# Altium footprint library KEA128_BOARD.PcbLib: 1 footprints
Each footprint in its own frame and in the unit in brackets; x right, y up, seen from the top. Pads: shape width x height; smd on the part's side, far side on the other; paste and mask are expansions set on the pad; w line width, h text height; cw(c..) or ccw(c..) is an arc to the next point about the centre after c.
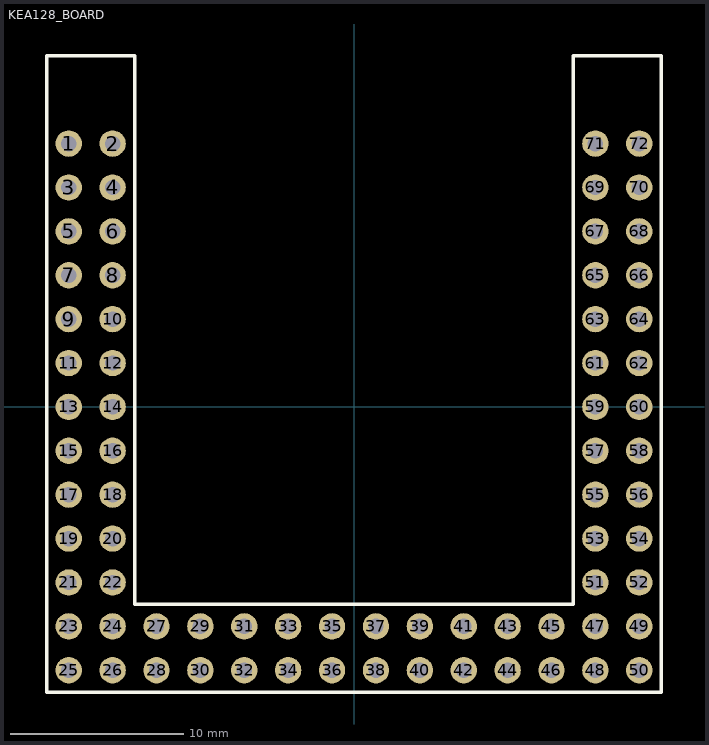
[diagram p0: the footprint, top view; thin cyan lines are the x and y axes]

## KEA128_BOARD [mil]
pads (72):
  round 60 hole 35: 1(-650,600) 2(-550,600) 3(-650,500) 4(-550,500) 5(-650,400) 6(-550,400) 7(-650,300) 8(-550,300) 9(-650,200) 10(-550,200) 11(-650,100) 12(-550,100) 13(-650,0) 14(-550,0) 15(-650,-100) 16(-550,-100) 17(-650,-200) 18(-550,-200) 19(-650,-300) 20(-550,-300) 21(-650,-400) 22(-550,-400) 23(-650,-500) 24(-550,-500) 25(-650,-600) 26(-550,-600) 27(-450,-500) 28(-450,-600) 29(-350,-500) 30(-350,-600) 31(-250,-500) 32(-250,-600) 33(-150,-500) 34(-150,-600) 35(-50,-500) 36(-50,-600) 37(50,-500) 38(50,-600) 39(150,-500) 40(150,-600) 41(250,-500) 42(250,-600) 43(350,-500) 44(350,-600) 45(450,-500) 46(450,-600) 47(550,-500) 48(550,-600) 49(650,-500) 50(650,-600) 51(550,-400) 52(650,-400) 53(550,-300) 54(650,-300) 55(550,-200) 56(650,-200) 57(550,-100) 58(650,-100) 59(550,0) 60(650,0) 61(550,100) 62(650,100) 63(550,200) 64(650,200) 65(550,300) 66(650,300) 67(550,400) 68(650,400) 69(550,500) 70(650,500) 71(550,600) 72(650,600)
Top Overlay:
  lines w7.87: -700,-650 700,-650 ; -700,800 -500,800 ; -500,-450 500,-450 500,800 700,800
  lines w8: -700,-650 -700,800 ; -500,-450 -500,800 ; 700,-650 700,800